# Altium footprint library DBT0030A_M.PcbLib: 1 footprints
Each footprint in its own frame and in the unit in brackets; x right, y up, seen from the top. Pads: shape width x height; smd on the part's side, far side on the other; paste and mask are expansions set on the pad; w line width, h text height; cw(c..) or ccw(c..) is an arc to the next point about the centre after c.
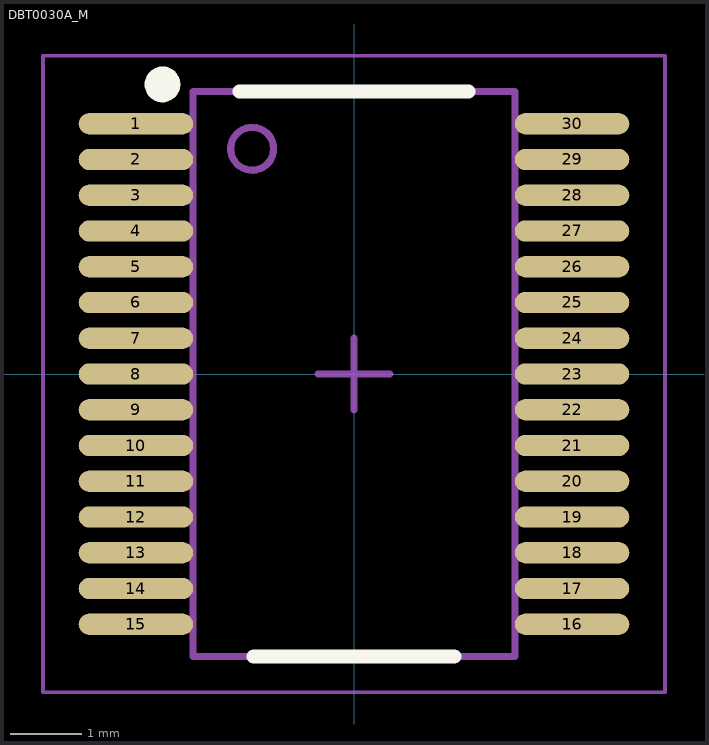
[diagram p0: the footprint, top view; thin cyan lines are the x and y axes]

## DBT0030A_M [mm]
pads (30):
  oval 1.6x0.3 smd paste+0 mask+0.051: 1(-3.05,3.5) 2(-3.05,3) 3(-3.05,2.5) 4(-3.05,2) 5(-3.05,1.5) 6(-3.05,1) 7(-3.05,0.5) 8(-3.05,0) 9(-3.05,-0.5) 10(-3.05,-1) 11(-3.05,-1.5) 12(-3.05,-2) 13(-3.05,-2.5) 14(-3.05,-3) 15(-3.05,-3.5) 16(3.05,-3.5) 17(3.05,-3) 18(3.05,-2.5) 19(3.05,-2) 20(3.05,-1.5) 21(3.05,-1) 22(3.05,-0.5) 23(3.05,0) 24(3.05,0.5) 25(3.05,1) 26(3.05,1.5) 27(3.05,2) 28(3.05,2.5) 29(3.05,3) 30(3.05,3.5)
Top Overlay:
  circle w0.25: c-2.679,4.05 r0.125
  lines w0.2: -1.6,3.95 1.6,3.95 ; -1.4,-3.95 1.4,-3.95
Mechanical 13:
  circle w0.1: c-1.425,3.15 r0.3
  lines w0.1: -2.25,-3.95 -2.25,3.95 2.25,3.95 2.25,-3.95 -2.25,-3.95
Mechanical 15:
  lines w0.05: -4.35,-4.45 -4.35,4.45 4.35,4.45 4.35,-4.45 -4.35,-4.45
  lines w0.1: -0.5,0 0.5,0 ; 0,-0.5 0,0.5
3D body "SW3dPS-TSSOP-30.STEP": height 1.12, standoff -0.02, extent -3.2,-3.963 3.2,3.937